# EAGLE library part SWITCH-DPDT (library pimoroni-mechanical)
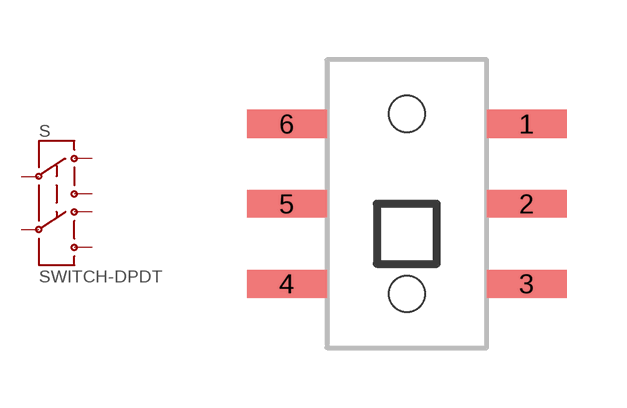
[diagram p1: symbol with the pads of SWITCH-DPDT; footprint SWITCH-DPDT]

Designator prefix S

## SWITCH-DPDT  [SWITCH-DPDT]
1  A_T2
2  A_P
3  A_T1
4  B_T1
5  B_P
6  B_T2

## Footprint SWITCH-DPDT (pad centres in mm)
smd 2 x 0.7: 1 3,2; 2 3,0; 3 3,-2; 4 -3,-2; 5 -3,0; 6 -3,2
hole 0.9 at 0,-2.25
hole 0.9 at 0,2.25